# Altium schematic symbol library TLP3910_C20-TP_E.SchLib: 1 symbol
Pins are listed as number, name and electrical type; pins without a type are passive.

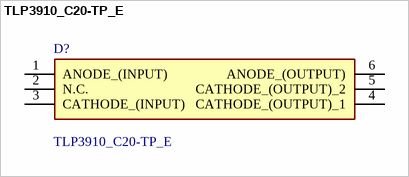
[diagram p0: symbol TLP3910_C20-TP_E]

## TLP3910_C20-TP_E
designator D?
Photodiode Output Optocouplers Photovoltaic Coupler; High Voc; SO6L; RoHS; Manufacturer_Name: Toshiba; Manufacturer_Part_Number: TLP3910(C20-TP,E; Geometry.Height: 2.2mm; Mouser Part Number: 757-TLP3910C20-TPE; Mouser Price/Stock: https://www.mouser.co.uk/ProductDetail/Toshiba/TLP3910C20-TPE?qs=TuK3vfAjtkUvVtweYOqjVw%3D%3D; Datasheet Link: https://www.mouser.jp/datasheet/2/408/TLP3910_datasheet_en_20210302-2321212.pdf
footprint SOIC127P1000X220-6N
pins: 1 ANODE_(INPUT), 2 N.C., 3 CATHODE_(INPUT), 4 CATHODE_(OUTPUT)_1, 5 CATHODE_(OUTPUT)_2, 6 ANODE_(OUTPUT)